# Altium schematic symbol library power_mon_supervisor.SchLib: 7 symbols
Pins are listed as number, name and electrical type; pins without a type are passive.

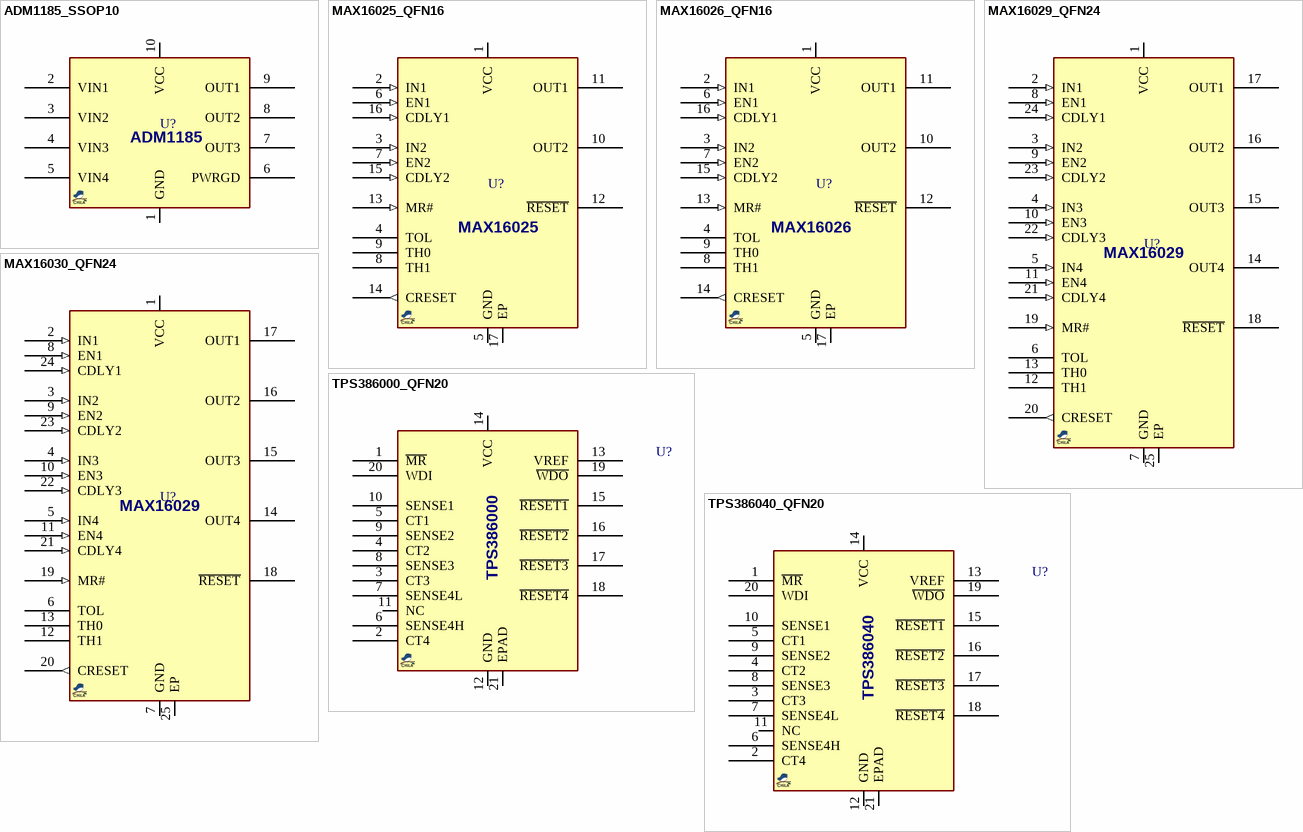
[diagram p0: symbols ADM1185_SSOP10 to TPS386040_QFN20]

## ADM1185_SSOP10
designator U?, comment ADM1185  (value not drawn)
PWR, SUPERVISOR, 4CH, ActiveHigh, OpenDrain; MANF: Analog Devices; MANF_P#: ADM1185ARMZ; PARAM2: 2.7~5.5Vcc, 0.6Vth, -40~85oC; PARAM: ActiveHigh, OpenDrain; PRICE: 3.9$; VALUE: ADM1185
footprint SOG50_10_S300
pins: 1 GND (power), 2 VIN1, 3 VIN2, 4 VIN3, 5 VIN4, 6 PWRGD, 7 OUT3, 8 OUT2, 9 OUT1, 10 VCC (power)

## MAX16025_QFN16
designator U?, comment MAX16025  (value not drawn)
PWR, SUPERVISOR, 2CH, ActiveLow, OpenDrain; MANF: Maxim Integrated; MANF_P#: MAX16025TE+; PARAM2: 2.2~28Vdd, 0.5Vth, -40~125oC; PARAM: ActiveLow, OpenDrain; PRICE: 3.7$; VALUE: MAX16025
footprint QFN65_16T (MO-220 VGGC, MO-220 WGGC-4(JEDEC), 4X4mm, 0.65mm)
pins: 1 VCC (power), 2 IN1 (in), 3 IN2 (in), 4 TOL (power), 5 GND (power), 6 EN1 (in), 7 EN2 (in), 8 TH1 (power), 9 TH0 (power), 10 OUT2, 11 OUT1, 12 ~{RESET}, 13 MR# (in), 14 CRESET (out), 15 CDLY2 (in), 16 CDLY1 (in), 17 EP (power)

## MAX16026_QFN16
designator U?, comment MAX16026  (value not drawn)
PWR, SUPERVISOR, 2CH, ActiveLow, PushPull; MANF: Maxim Integrated; MANF_P#: MAX16026TE+; PARAM2: 2.2~28Vdd, 0.5Vth, -40~125oC; PARAM: ActiveLow, PushPull; PRICE: 9.6$; VALUE: MAX16026
footprint QFN65_16T (MO-220 VGGC, MO-220 WGGC-4(JEDEC), 4X4mm, 0.65mm)
pins: 1 VCC (power), 2 IN1 (in), 3 IN2 (in), 4 TOL (power), 5 GND (power), 6 EN1 (in), 7 EN2 (in), 8 TH1 (power), 9 TH0 (power), 10 OUT2, 11 OUT1, 12 ~{RESET}, 13 MR# (in), 14 CRESET (out), 15 CDLY2 (in), 16 CDLY1 (in), 17 EP (power)

## MAX16029_QFN24
designator U?, comment MAX16029  (value not drawn)
PWR, SUPERVISOR, 4CH, ActiveLow, OpenDrain; MANF: Maxim Integrated; MANF_P#: MAX16029TG+; PARAM2: 2.2~28Vdd, 0.5Vth, -40~125oC; PARAM: ActiveLow, OpenDrain; PRICE: 9.6$; VALUE: MAX16029
footprint QFN50_24T (MO-220 (JEDEC), RGE S-PQFP-N24 (TI), 4X4mm, 0.5mm, HVQFN24)
pins: 1 VCC (power), 2 IN1 (in), 3 IN2 (in), 4 IN3 (in), 5 IN4 (in), 6 TOL (power), 7 GND (power), 8 EN1 (in), 9 EN2 (in), 10 EN3 (in), 11 EN4 (in), 12 TH1 (power), 13 TH0 (power), 14 OUT4, 15 OUT3, 16 OUT2, 17 OUT1, 18 ~{RESET}, 19 MR# (in), 20 CRESET (out), 21 CDLY4 (in), 22 CDLY3 (in), 23 CDLY2 (in), 24 CDLY1 (in), 25 EP (power)

## MAX16030_QFN24
designator U?, comment MAX16030  (value not drawn)
PWR, SUPERVISOR, 4CH, ActiveLow, PushPull; MANF: Maxim Integrated; MANF_P#: MAX16030TG+; PARAM2: 2.2~28Vdd, 0.5Vth, -40~125oC; PARAM: ActiveLow, PushPull; PRICE: 9.6$; VALUE: MAX16030
footprint QFN50_24T (MO-220 (JEDEC), RGE S-PQFP-N24 (TI), 4X4mm, 0.5mm, HVQFN24)
pins: 1 VCC (power), 2 IN1 (in), 3 IN2 (in), 4 IN3 (in), 5 IN4 (in), 6 TOL (power), 7 GND (power), 8 EN1 (in), 9 EN2 (in), 10 EN3 (in), 11 EN4 (in), 12 TH1 (power), 13 TH0 (power), 14 OUT4, 15 OUT3, 16 OUT2, 17 OUT1, 18 ~{RESET}, 19 MR# (in), 20 CRESET (out), 21 CDLY4 (in), 22 CDLY3 (in), 23 CDLY2 (in), 24 CDLY1 (in), 25 EP (power)
text: MAX16029

## TPS386000_QFN20
designator U?, comment TPS386000  (value not drawn)
PWR, SUPERVISOR, 4CH, ActiveLow, OpenDrain; DESC: 1.4ms~10s; MANF: Texas Instruments; MANF_P#: TPS386000RGP; PARAM2: 1.8~6.5Vdd, 0.4Vth, -40~125oC; PARAM: ActiveLow, OpenDrain, WatchDog; PRICE: 2.5$; VALUE: TPS386000
footprint QFN50_20T (QFN, 20, 4X4mm, 0.5mm)
pins: 1 ~{MR}, 2 CT4, 3 CT3, 4 CT2, 5 CT1, 6 SENSE4H, 7 SENSE4L, 8 SENSE3, 9 SENSE2, 10 SENSE1, 11 NC, 12 GND, 13 VREF, 14 VCC, 15 ~{RESET1}, 16 ~{RESET2}, 17 ~{RESET3}, 18 ~{RESET4}, 19 ~{WDO}, 20 WDI, 21 EPAD

## TPS386040_QFN20
designator U?, comment TPS386040  (value not drawn)
PWR, SUPERVISOR, 4CH, ActiveLow, PushPull; DESC: 1.4ms~10s; MANF: Texas Instruments; MANF_P#: TPS386040RGP; PARAM2: 1.8~6.5Vdd, 0.4Vth, -40~125oC; PARAM: ActiveLow, PushPull, WatchDog; PRICE: 2.8$; VALUE: TPS386040
footprint QFN50_20T (QFN, 20, 4X4mm, 0.5mm)
pins: 1 ~{MR}, 2 CT4, 3 CT3, 4 CT2, 5 CT1, 6 SENSE4H, 7 SENSE4L, 8 SENSE3, 9 SENSE2, 10 SENSE1, 11 NC, 12 GND, 13 VREF, 14 VCC, 15 ~{RESET1}, 16 ~{RESET2}, 17 ~{RESET3}, 18 ~{RESET4}, 19 ~{WDO}, 20 WDI, 21 EPAD